# Altium footprint library smd_led.PcbLib: 8 footprints
Each footprint in its own frame and in the unit in brackets; x right, y up, seen from the top. Pads: shape width x height; smd on the part's side, far side on the other; paste and mask are expansions set on the pad; w line width, h text height; cw(c..) or ccw(c..) is an arc to the next point about the centre after c.
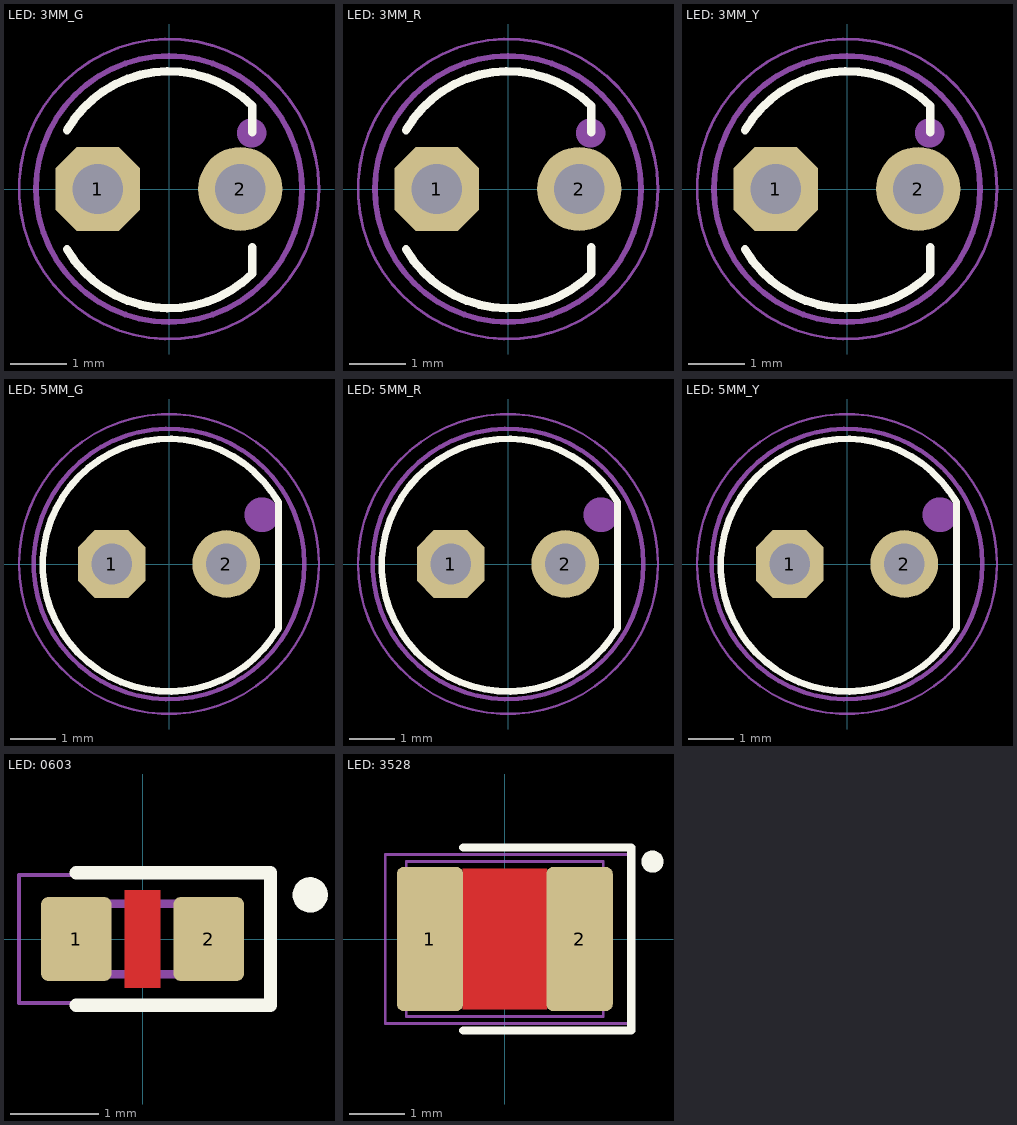
[diagram p0: the footprints below, top view; thin cyan lines are the x and y axes]

## LED: 3MM_G [mm] "Green Leaded Led, 3 mm"
height 12
pads (2):
  oct 1.5x1.5 hole 0.9: 1(-1.27,0)
  round 1.5 hole 0.9: 2(1.27,0)
Top Overlay:
  lines w0.15: -1.819,-1.075 ccw(c0,-0.025) 1.485,-1.51 1.485,-1.04 ; -1.819,1.05 cw(c0,0) 1.485,1.485 1.485,1.015
Top Assembly:
  circle w0.5: c1.475,1 r0.01
  circle w0.1: c0,0 r2.372
  text ".Designator" at -4.998,-0.333 h1
Top Courtyard (Mech15):
  circle w0.05: c0,0 r2.675
3D body "3mm_led_grn.STEP": height 12, standoff -1, extent -2,-2 2,2

## LED: 3MM_R [mm] "Red Leaded Led, 3 mm"
height 12
pads (2):
  oct 1.5x1.5 hole 0.9: 1(-1.27,0)
  round 1.5 hole 0.9: 2(1.27,0)
Top Overlay:
  lines w0.15: -1.819,-1.075 ccw(c0,-0.025) 1.485,-1.51 1.485,-1.04 ; -1.819,1.05 cw(c0,0) 1.485,1.485 1.485,1.015
Top Assembly:
  circle w0.5: c1.475,1 r0.01
  circle w0.1: c0,0 r2.372
  text ".Designator" at -4.998,-0.333 h1
Top Courtyard (Mech15):
  circle w0.05: c0,0 r2.675
3D body "3mm_led_red.STEP": height 12, standoff -1, extent -2,-2 2,2

## LED: 3MM_Y [mm] "Yellow Leaded Led, 3 mm"
height 12
pads (2):
  oct 1.5x1.5 hole 0.9: 1(-1.27,0)
  round 1.5 hole 0.9: 2(1.27,0)
Top Overlay:
  lines w0.15: 1.485,-1.51 cw(c0,-0.025) -1.819,-1.075 ccw(c0,-0.025) 1.485,-1.51 ; 1.485,-1.51 1.485,-1.04 1.485,-1.51 ; 1.485,1.485 ccw(c0,0) -1.819,1.05 cw(c0,0) 1.485,1.485 ; 1.485,1.485 1.485,1.015 1.485,1.485
Top Assembly:
  circle w0.5: c1.475,1 r0.01
  circle w0.1: c0,0 r2.372
  text ".Designator" at -4.998,-0.333 h1
Top Courtyard (Mech15):
  circle w0.05: c0,0 r2.675
3D body "3mm_led_yell.STEP": height 12, standoff -1, extent -2,-2 2,2

## LED: 5MM_G [mm] "Green Leaded Led, 5 mm"
height 12
pads (2):
  oct 1.5x1.5 hole 0.9: 1(-1.27,0)
  round 1.5 hole 0.9: 2(1.27,0)
Top Overlay:
  lines w0.15: 2.425,-1.425 cw(c0,-0.025) 2.425,1.375 2.425,-1.425
Top Assembly:
  circle w0.75: c2.06,1.094 r0.01
  circle w0.1: c0,0 r3
  text ".Designator" at -4.998,-0.333 h1
Top Courtyard (Mech15):
  circle w0.05: c0,0 r3.325
3D body "5mm_led_grn.STEP": height 14.5, standoff -1, extent -3,-3 3,3

## LED: 5MM_R [mm] "Red Leaded Led, 5 mm"
height 12
pads (2):
  oct 1.5x1.5 hole 0.9: 1(-1.27,0)
  round 1.5 hole 0.9: 2(1.27,0)
Top Overlay:
  lines w0.15: 2.425,-1.425 cw(c0,-0.025) 2.425,1.375 2.425,-1.425
Top Assembly:
  circle w0.75: c2.06,1.094 r0.01
  circle w0.1: c0,0 r3
  text ".Designator" at -4.998,-0.333 h1
Top Courtyard (Mech15):
  circle w0.05: c0,0 r3.325
3D body "5mm_led_red.STEP": height 14.5, standoff -1, extent -3,-3 3,3

## LED: 5MM_Y [mm] "Yellow Leaded Led, 5 mm"
height 12
pads (2):
  oct 1.5x1.5 hole 0.9: 1(-1.27,0)
  round 1.5 hole 0.9: 2(1.27,0)
Top Overlay:
  lines w0.15: 2.425,-1.425 cw(c0,-0.025) 2.425,1.375 2.425,-1.425
Top Assembly:
  circle w0.75: c2.06,1.094 r0.01
  circle w0.1: c0,0 r3
  text ".Designator" at -4.998,-0.333 h1
Top Courtyard (Mech15):
  circle w0.05: c0,0 r3.325
3D body "5mm_led_yell.STEP": height 14.5, standoff -1, extent -3,-3 3,3

## LED: 0603 [mm]
pads (2):
  rrect20% 0.8x0.95 smd: 1(-0.75,0) 2(0.75,0)
Top Layer:
  pour cut-out: 0.2,-0.55 0.2,0.55 -0.2,0.55 -0.2,-0.55
Top Overlay:
  circle w0.2: c1.9,0.5 r0.1
  lines w0.15: -0.75,-0.75 1.45,-0.75 1.45,0.75 -0.75,0.75
Top Assembly:
  circle w0.1: c0.588,0.25 r0.01
  lines w0.1: -0.8,-0.4 -0.8,0.4 0.8,0.4 0.8,-0.4 -0.8,-0.4
  text ".Designator" at -4.998,-0.333 h1
Top Courtyard (Mech15):
  lines w0.05: -1.4,-0.725 1.4,-0.725 1.4,0.725 -1.4,0.725 -1.4,-0.725
3D body "User Library-LED_0603_B.STEP": height 0.6, standoff 0, extent -0.8,-0.4 0.8,0.4

## LED: 3528 [mm]
pads (2):
  rrect20% 1.2x2.6 smd: 1(-1.35,0) 2(1.35,0)
Top Layer:
  pour cut-out: 0.762,-1.27 0.762,1.27 -0.762,1.27 -0.762,-1.27
Top Overlay:
  circle w0.2: c2.667,1.397 r0.1
  lines w0.15: -0.75,-1.651 2.286,-1.651 2.286,1.651 -0.75,1.651
Top Assembly:
  circle w0.2: c1.397,1.016 r0.1
  lines w0.05: -1.778,-1.397 1.778,-1.397 1.778,1.397 -1.778,1.397 -1.778,-1.397
  text ".Designator" at -4.998,-0.333 h1
Top Courtyard (Mech15):
  lines w0.05: -2.159,-1.524 -2.159,1.524 2.286,1.524 2.286,-1.524 -2.159,-1.524
3D body "User Library-LED RGB 3528.step": height 1.9, standoff 0, extent -1.75,-1.4 1.75,1.4